# EAGLE library part MAX3221ECPWR (library MAX3221ECPWR-TI)
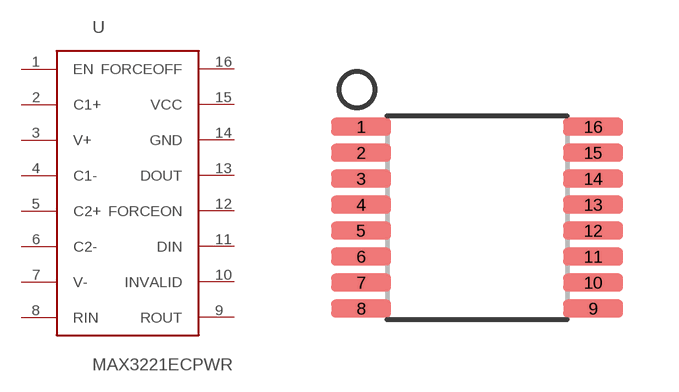
[diagram p0: symbol with the pads of TSSOP; footprint TSSOP]

Designator prefix U

## MAX3221ECPWR  [TSSOP]
1  EN  in
2  C1+  pas
3  V+  out
4  C1-  pas
5  C2+  pas
6  C2-  pas
7  V-  out
8  RIN  in
9  ROUT  out
10  INVALID  out
11  DIN  in
12  FORCEON  in
13  DOUT  out
14  GND  pwr
15  VCC  pwr
16  FORCEOFF  in

## Footprint TSSOP (pad centres in mm)
smd 1.5 x 0.45: 1 -2.9,2.275; 2 -2.9,1.625; 3 -2.9,0.975; 4 -2.9,0.325; 5 -2.9,-0.325; 6 -2.9,-0.975; 7 -2.9,-1.625; 8 -2.9,-2.275; 9 2.9,-2.275; 10 2.9,-1.625; 11 2.9,-0.975; 12 2.9,-0.325; 13 2.9,0.325; 14 2.9,0.975; 15 2.9,1.625; 16 2.9,2.275